# Altium schematic symbol library STM32H7S3Z8T6.SchLib: 1 symbol
Pins are listed as number, name and electrical type; pins without a type are passive.

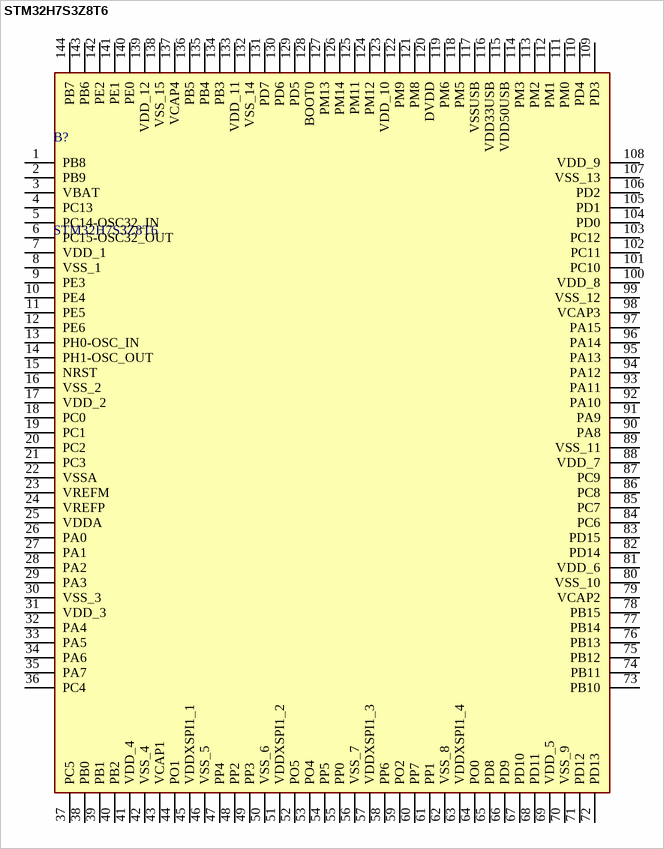
[diagram p0: symbol STM32H7S3Z8T6]

## STM32H7S3Z8T6
designator B?
Arm Cortex-M7 32-bit 600 MHz MCU, 64 KB flash, 620 KB RAM, Ethernet, 2x USB, 2x FD-CAN, advanced graphics and security, 2x 12-bit ADCs; Manufacturer_Name: STMicroelectronics; Geometry.Height: 1.6mm; Manufacturer_Part_Number: STM32H7S3Z8T6; Mouser Part Number: 511-STM32H7S3Z8T6; Mouser Price/Stock: https://www.mouser.co.uk/ProductDetail/STMicroelectronics/STM32H7S3Z8T6?qs=ZcfC38r4PotPovZkZh9H4g%3D%3D; Arrow Part Number: *; Arrow Price/Stock: *; Datasheet Link: https://www.st.com/resource/en/datasheet/stm32h7s3a8.pdf
footprint QFP50P2200X2200X160-144N
pins: 1 PB8, 2 PB9, 3 VBAT, 4 PC13, 5 PC14-OSC32_IN, 6 PC15-OSC32_OUT, 7 VDD_1, 8 VSS_1, 9 PE3, 10 PE4, 11 PE5, 12 PE6, 13 PH0-OSC_IN, 14 PH1-OSC_OUT, 15 NRST, 16 VSS_2, 17 VDD_2, 18 PC0, 19 PC1, 20 PC2, 21 PC3, 22 VSSA, 23 VREFM, 24 VREFP, 25 VDDA, 26 PA0, 27 PA1, 28 PA2, 29 PA3, 30 VSS_3, 31 VDD_3, 32 PA4, 33 PA5, 34 PA6, 35 PA7, 36 PC4, 37 PC5, 38 PB0, 39 PB1, 40 PB2, 41 VDD_4, 42 VSS_4, 43 VCAP1, 44 PO1, 45 VDDXSPI1_1, 46 VSS_5, 47 PP4, 48 PP2, 49 PP3, 50 VSS_6, 51 VDDXSPI1_2, 52 PO5, 53 PO4, 54 PP5, 55 PP0, 56 VSS_7, 57 VDDXSPI1_3, 58 PP6, 59 PO2, 60 PP7, 61 PP1, 62 VSS_8, 63 VDDXSPI1_4, 64 PO0, 65 PD8, 66 PD9, 67 PD10, 68 PD11, 69 VDD_5, 70 VSS_9, 71 PD12, 72 PD13, 73 PB10, 74 PB11, 75 PB12, 76 PB13, 77 PB14, 78 PB15, 79 VCAP2, 80 VSS_10, 81 VDD_6, 82 PD14, 83 PD15, 84 PC6, 85 PC7, 86 PC8, 87 PC9, 88 VDD_7, 89 VSS_11, 90 PA8, 91 PA9, 92 PA10, 93 PA11, 94 PA12, 95 PA13, 96 PA14, 97 PA15, 98 VCAP3, 99 VSS_12, 100 VDD_8, 101 PC10, 102 PC11, 103 PC12, 104 PD0, 105 PD1, 106 PD2, 107 VSS_13, 108 VDD_9, 109 PD3, 110 PD4, 111 PM0, 112 PM1, 113 PM2, 114 PM3, 115 VDD50USB, 116 VDD33USB, 117 VSSUSB, 118 PM5, 119 PM6, 120 DVDD, 121 PM8, 122 PM9, 123 VDD_10, 124 PM12, 125 PM11, 126 PM14, 127 PM13, 128 BOOT0, 129 PD5, 130 PD6, 131 PD7, 132 VSS_14, 133 VDD_11, 134 PB3, 135 PB4, 136 PB5, 137 VCAP4, 138 VSS_15, 139 VDD_12, 140 PE0, 141 PE1, 142 PE2, 143 PB6, 144 PB7